# Altium footprint library PcbLib1.PcbLib: 3 footprints
Each footprint in its own frame and in the unit in brackets; x right, y up, seen from the top. Pads: shape width x height; smd on the part's side, far side on the other; paste and mask are expansions set on the pad; w line width, h text height; cw(c..) or ccw(c..) is an arc to the next point about the centre after c.
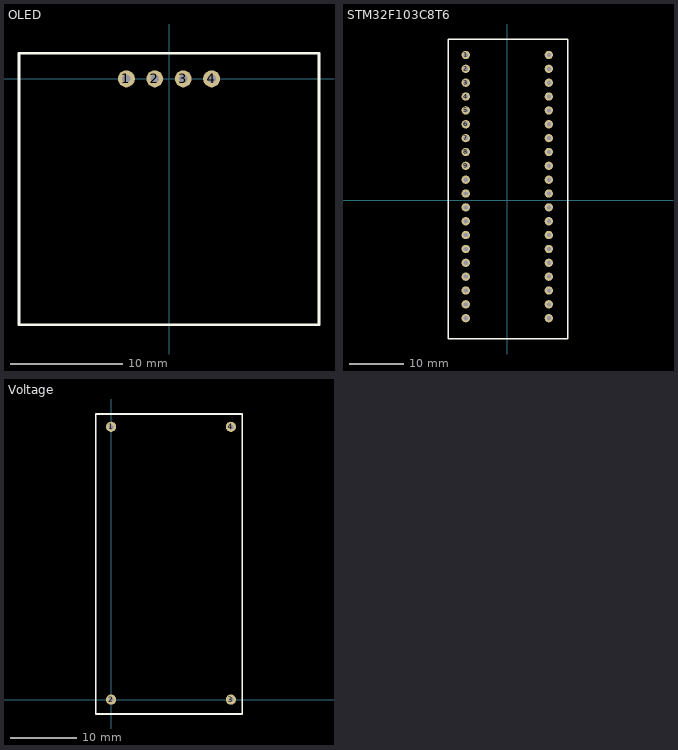
[diagram p0: the footprints below, top view; thin cyan lines are the x and y axes]

## OLED [mil]
pads (4):
  round 60 hole 30: 1(-150,0) 2(-50,0) 3(50,0) 4(150,0)
Top Overlay:
  lines w10: -527.56,-865 527.56,-865 527.56,-585 527.56,-516 527.56,-45 527.56,90 -527.56,90 -527.56,-865

## STM32F103C8T6 [mil]
pads (40):
  round 60 hole 30: 1(-300,1050) 2(-300,950) 3(-300,850) 4(-300,750) 5(-300,650) 6(-300,550) 7(-300,450) 8(-300,350) 9(-300,250) 10(-300,150) 11(-300,50) 12(-300,-50) 13(-300,-150) 14(-300,-250) 15(-300,-350) 16(-300,-450) 17(-300,-550) 18(-300,-650) 19(-300,-750) 20(-300,-850) 21(300,-850) 22(300,-750) 23(300,-650) 24(300,-550) 25(300,-450) 26(300,-350) 27(300,-250) 28(300,-150) 29(300,-50) 30(300,50) 31(300,150) 32(300,250) 33(300,350) 34(300,450) 35(300,550) 36(300,650) 37(300,750) 38(300,850) 39(300,950) 40(300,1050)
Top Overlay:
  lines w10: -425,1165 435,1165 435,1095 435,1050 435,-1000 -425,-1000 -425,1165.35

## Voltage [mil]
pads (4):
  round 60 hole 30: 1(0,1614.17) 2(0,0) 3(708.66,0) 4(708.66,1614.17)
Top Overlay:
  lines w10: -90,-85 -90,1690 775,1690 775,-85 -90,-85